# Altium footprint library OSCCC200X160X80L60X40N.PcbLib: 1 footprints
Each footprint in its own frame and in the unit in brackets; x right, y up, seen from the top. Pads: shape width x height; smd on the part's side, far side on the other; paste and mask are expansions set on the pad; w line width, h text height; cw(c..) or ccw(c..) is an arc to the next point about the centre after c.
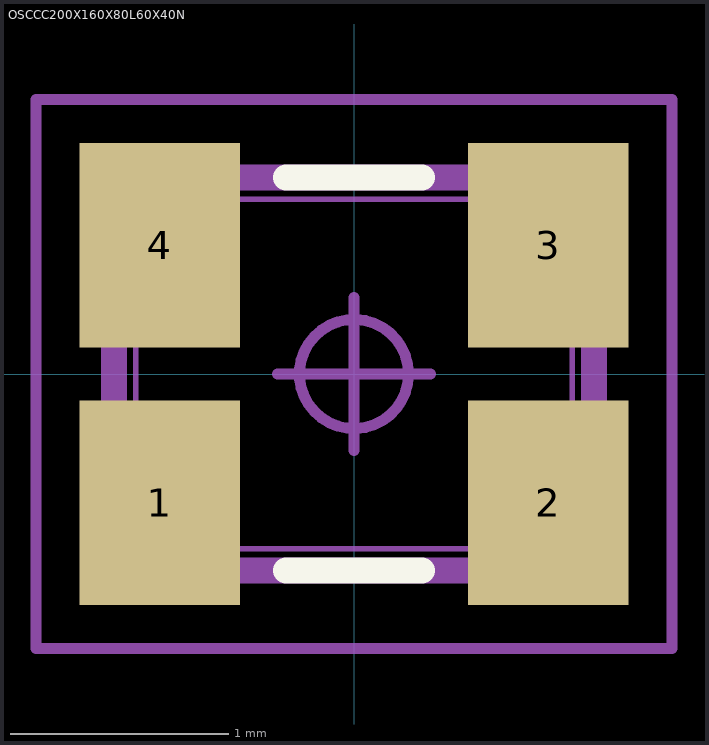
[diagram p0: the footprint, top view; thin cyan lines are the x and y axes]

## OSCCC200X160X80L60X40N [mm] "Oscillator, Corner Concave; 2.00 mm L X 1.60 mm W X 0.80 mm H Body"
height 0.8
pads (4):
  rect 0.735x0.935 smd: 1(-0.89,-0.59) 2(0.89,-0.59) 3(0.89,0.59) 4(-0.89,0.59)
Top Overlay:
  lines w0.12: -0.31,-0.9 0.31,-0.9 ; -0.31,0.9 0.31,0.9
Mechanical 3:
  lines w0.12: -1.1,-0.551 -1.1,0.9 1.1,0.9 1.1,-0.9 -0.751,-0.9 -1.1,-0.551
Mechanical 5:
  lines w0.025: -1,-0.8 1,-0.8 ; -1,-0.8 -1,0.8 ; -1,-0.8 -1,-0.2 -0.6,-0.2 -0.6,-0.8 -1,-0.8 ; -1,0.8 1,0.8 ; -1,0.8 -0.6,0.8 -0.6,0.2 -1,0.2 -1,0.8 ; 1,-0.8 1,0.8 ; 1,-0.8 0.6,-0.8 0.6,-0.2 1,-0.2 1,-0.8 ; 1,0.8 1,0.2 0.6,0.2 0.6,0.8 1,0.8
Mechanical 7:
  circle w0.05: c0,0 r0.25
  lines w0.05: -0.35,0 0.35,0 ; 0,-0.35 0,0.35 ; -1.458,-1.258 1.458,-1.258 1.458,1.258 -1.458,1.258 -1.458,-1.258
Mechanical 9:
  text "'.Designator'" at -5.69,-0.271 h1.02
3D body "OSCCC200X160X80L60X40.STEP": height 0.8, standoff 0, extent -1,-0.8 1,0.8
3D body: height 0.8, standoff 0, extent -1.458,-1.258 1.458,1.258